# Altium footprint library Constant Power Charging Board.PcbLib: 17 footprints (part 2 of 2)
Each footprint in its own frame and in the unit in brackets; x right, y up, seen from the top. Pads: shape width x height; smd on the part's side, far side on the other; paste and mask are expansions set on the pad; w line width, h text height; cw(c..) or ccw(c..) is an arc to the next point about the centre after c.
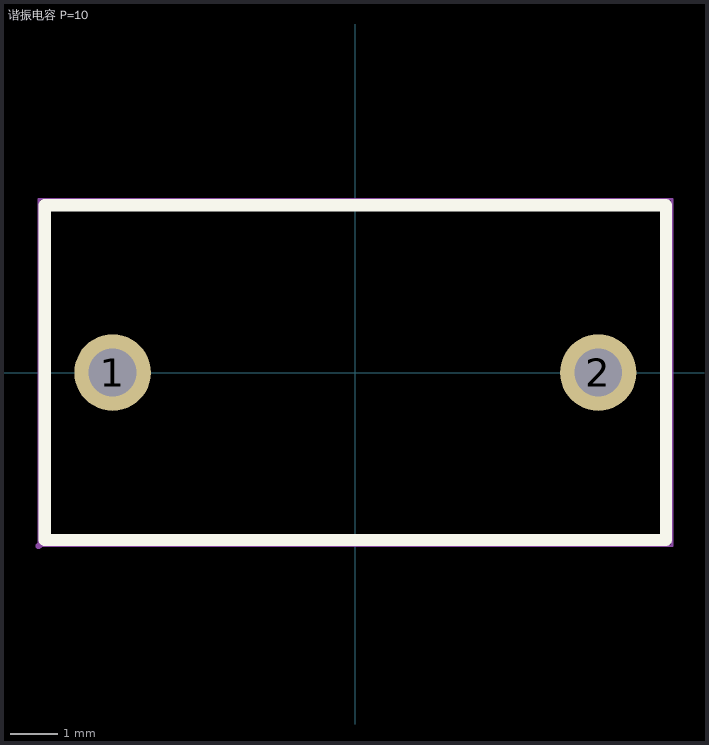
[diagram p1: the footprint, top view; thin cyan lines are the x and y axes]

## 谐振电容 P=10 [mm]
pads (2):
  round 1.6 hole 1 paste+0 mask+0.051: 1(-5.08,0) 2(5.08,0)
Top Overlay:
  lines w0.254: -6.5,-3.5 6.5,-3.5 6.5,3.5 -6.5,3.5 -6.5,-3.5
Mechanical 15:
  region: -4.68,0 -4.68,0.08 -4.741,0.227 -4.853,0.339 -5,0.4 -5.16,0.4 -5.307,0.339 -5.419,0.227 -5.48,0.08 -5.48,0 -5.48,-0.08 -5.419,-0.227 -5.307,-0.339 -5.16,-0.4 -5,-0.4 -4.853,-0.339 -4.741,-0.227 -4.68,-0.08 -4.68,0
  region: 5.48,0 5.48,0.08 5.419,0.227 5.307,0.339 5.16,0.4 5,0.4 4.853,0.339 4.741,0.227 4.68,0.08 4.68,0 4.68,-0.08 4.741,-0.227 4.853,-0.339 5,-0.4 5.16,-0.4 5.307,-0.339 5.419,-0.227 5.48,-0.08 5.48,0
  region: -6.567,-3.627 -6.567,-3.602 -6.602,-3.567 -6.652,-3.567 -6.687,-3.602 -6.687,-3.627 -6.687,-3.652 -6.652,-3.687 -6.602,-3.687 -6.567,-3.652 -6.567,-3.627
  lines w0.051: -6.627,-3.627 6.627,-3.627 6.627,3.627 -6.627,3.627 -6.627,-3.627